# Altium footprint library DXT3904-13.PcbLib: 1 footprints
Each footprint in its own frame and in the unit in brackets; x right, y up, seen from the top. Pads: shape width x height; smd on the part's side, far side on the other; paste and mask are expansions set on the pad; w line width, h text height; cw(c..) or ccw(c..) is an arc to the next point about the centre after c.
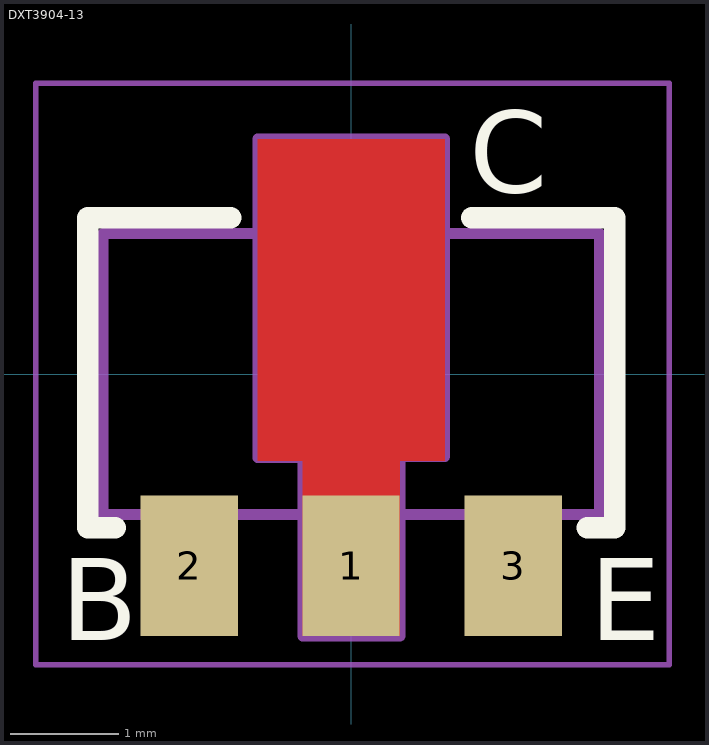
[diagram p0: the footprint, top view; thin cyan lines are the x and y axes]

## DXT3904-13 [mm] "TRANS NPN 40V 0.2A SOT89-3"
height 1.6
pads (3):
  rect 0.9x1.3 smd: 1(-0.001,-1.775) 2(-1.5,-1.775) 3(1.5,-1.775)
Top Layer:
  region: -0.866,-0.805 -0.45,-0.805 -0.45,-2.425 0.45,-2.425 0.45,-0.805 0.866,-0.805 0.866,2.175 -0.866,2.175
Top Overlay:
  lines w0.2: -2.184,-1.422 -2.438,-1.422 -2.438,1.448 -1.118,1.448 ; 1.118,1.448 2.438,1.448 2.438,-1.422 2.184,-1.422
  text "B" at -2.692,-2.464 h0.76
  text "E" at 2.21,-2.464 h0.76
  text "C" at 1.092,1.676 h0.76
Mechanical 1:
  lines w0.1: -2.3,-1.3 2.3,-1.3 2.3,1.3 -2.3,1.3 -2.3,-1.3
Mechanical 3:
  lines w0.05: -2.921,-2.692 -2.921,2.692 2.946,2.692 2.946,-2.692 -2.921,-2.692
Mechanical 4:
  lines w0.1: -0.866,-0.775 -0.45,-0.775 -0.45,-2.425 0.45,-2.425 0.45,-0.765 0.866,-0.765 0.866,2.175 -0.866,2.175 -0.866,-0.775
3D body: height 1.6, standoff 0, extent -2.3,-1.3 2.3,1.3